# Altium schematic symbol library MCP2551.SchLib: 1 symbol
Pins are listed as number, name and electrical type; pins without a type are passive.

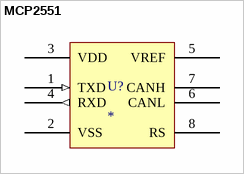
[diagram p0: symbol MCP2551]

## MCP2551
designator U?
High-speed CAN Transceiver, 1Mb/s; farnell: 9758569
footprint MCP2551
footprint MCP2551
pins: 1 TXD (in), 2 VSS (power), 3 VDD (power), 4 RXD (out), 5 VREF, 6 CANL, 7 CANH, 8 RS